# EAGLE library part AD7997 (library aggiunte)
AD7997 8 ch ADC @ I2C
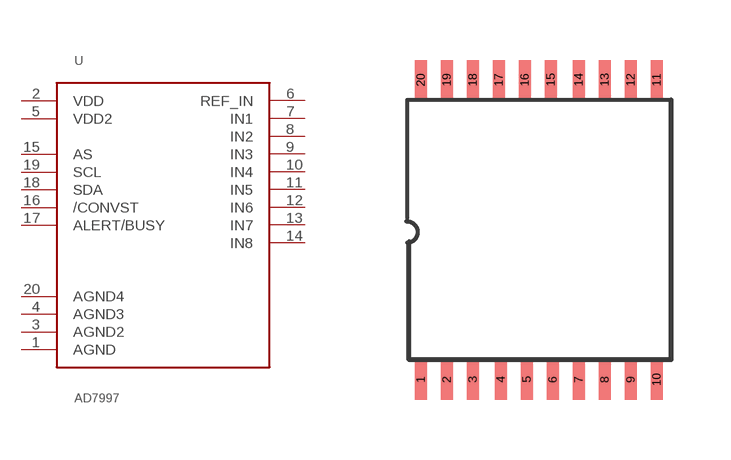
[diagram p9: symbol with the pads of AD7997; footprint AD7997]

Designator prefix -

## AD7997  [AD7997]
1  AGND  pwr
2  VDD  pwr
3  AGND2  pwr
4  AGND3  pwr
5  VDD2  pwr
6  REF_IN  in
7  IN1  in
8  IN2  in
9  IN3  in
10  IN4  in
11  IN5  in
12  IN6  in
13  IN7  in
14  IN8  in
15  AS  in
16  /CONVST  in
17  ALERT/BUSY  out
18  SDA
19  SCL  in
20  AGND4  pwr

## Footprint AD7997 (pad centres in mm)
smd 0.3 x 1: 1 0.15,0.55; 2 0.8,0.55; 3 1.45,0.55; 4 2.15,0.55; 5 2.8,0.55; 6 3.45,0.55; 7 4.1,0.55; 8 4.75,0.55; 9 5.4,0.55; 10 6.05,0.55; 11 6.05,8.05; 12 5.4,8.05; 13 4.75,8.05; 14 4.1,8.05; 15 3.4,8.05; 16 2.75,8.05; 17 2.1,8.05; 18 1.45,8.05; 19 0.8,8.05; 20 0.15,8.05